# Altium schematic symbol library N20.SchLib: 1 symbol
Pins are listed as number, name and electrical type; pins without a type are passive.

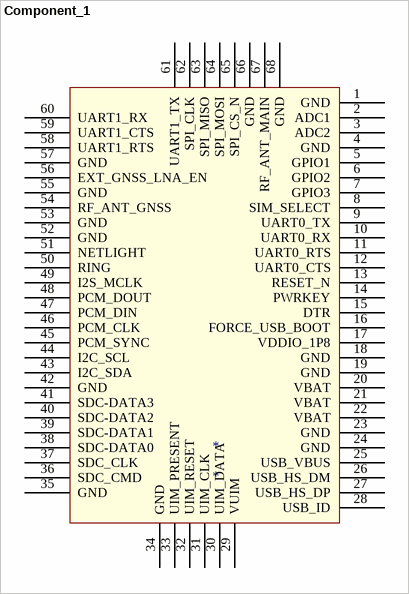
[diagram p0: symbol Component_1]

## Component_1
designator *
pins: 1 GND, 2 ADC1, 3 ADC2, 4 GND, 5 GPIO1, 6 GPIO2, 7 GPIO3, 8 SIM_SELECT, 9 UART0_TX, 10 UART0_RX, 11 UART0_RTS, 12 UART0_CTS, 13 RESET_N, 14 PWRKEY, 15 DTR, 16 FORCE_USB_BOOT, 17 VDDIO_1P8, 18 GND, 19 GND, 20 VBAT, 21 VBAT, 22 VBAT, 23 GND, 24 GND, 25 USB_VBUS, 26 USB_HS_DM, 27 USB_HS_DP, 28 USB_ID, 29 VUIM, 30 UIM_DATA, 31 UIM_CLK, 32 UIM_RESET, 33 UIM_PRESENT, 34 GND, 35 GND, 36 SDC_CMD, 37 SDC_CLK, 38 SDC-DATA0, 39 SDC-DATA1, 40 SDC-DATA2, 41 SDC-DATA3, 42 GND, 43 I2C_SDA, 44 I2C_SCL, 45 PCM_SYNC, 46 PCM_CLK, 47 PCM_DIN, 48 PCM_DOUT, 49 I2S_MCLK, 50 RING, 51 NETLIGHT, 52 GND, 53 GND, 54 RF_ANT_GNSS, 55 GND, 56 EXT_GNSS_LNA_EN, 57 GND, 58 UART1_RTS, 59 UART1_CTS, 60 UART1_RX, 61 UART1_TX, 62 SPI_CLK, 63 SPI_MISO, 64 SPI_MOSI, 65 SPI_CS_N, 66 GND, 67 RF_ANT_MAIN, 68 GND